# EAGLE library part SI5401DC (library kwoo)
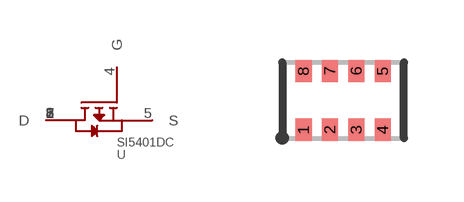
[diagram p6: symbol with the pads of 1206-8_CHIPFET; footprint 1206-8_CHIPFET]

Designator prefix -

## SI5401DC  [1206-8_CHIPFET]
1  D
2  D$1
3  D$2
4  G
5  S
6  D$3
7  D$4
8  D$5

## Footprint 1206-8_CHIPFET (pad centres in mm)
smd 0.406 x 0.559: 1 -0.991,-0.737; 2 -0.33,-0.737; 3 0.33,-0.737; 4 0.991,-0.737; 5 0.991,0.737; 6 0.33,0.737; 7 -0.33,0.737; 8 -0.991,0.737